# Altium footprint library WB_POWER.PcbLib: 8 footprints
Each footprint in its own frame and in the unit in brackets; x right, y up, seen from the top. Pads: shape width x height; smd on the part's side, far side on the other; paste and mask are expansions set on the pad; w line width, h text height; cw(c..) or ccw(c..) is an arc to the next point about the centre after c.
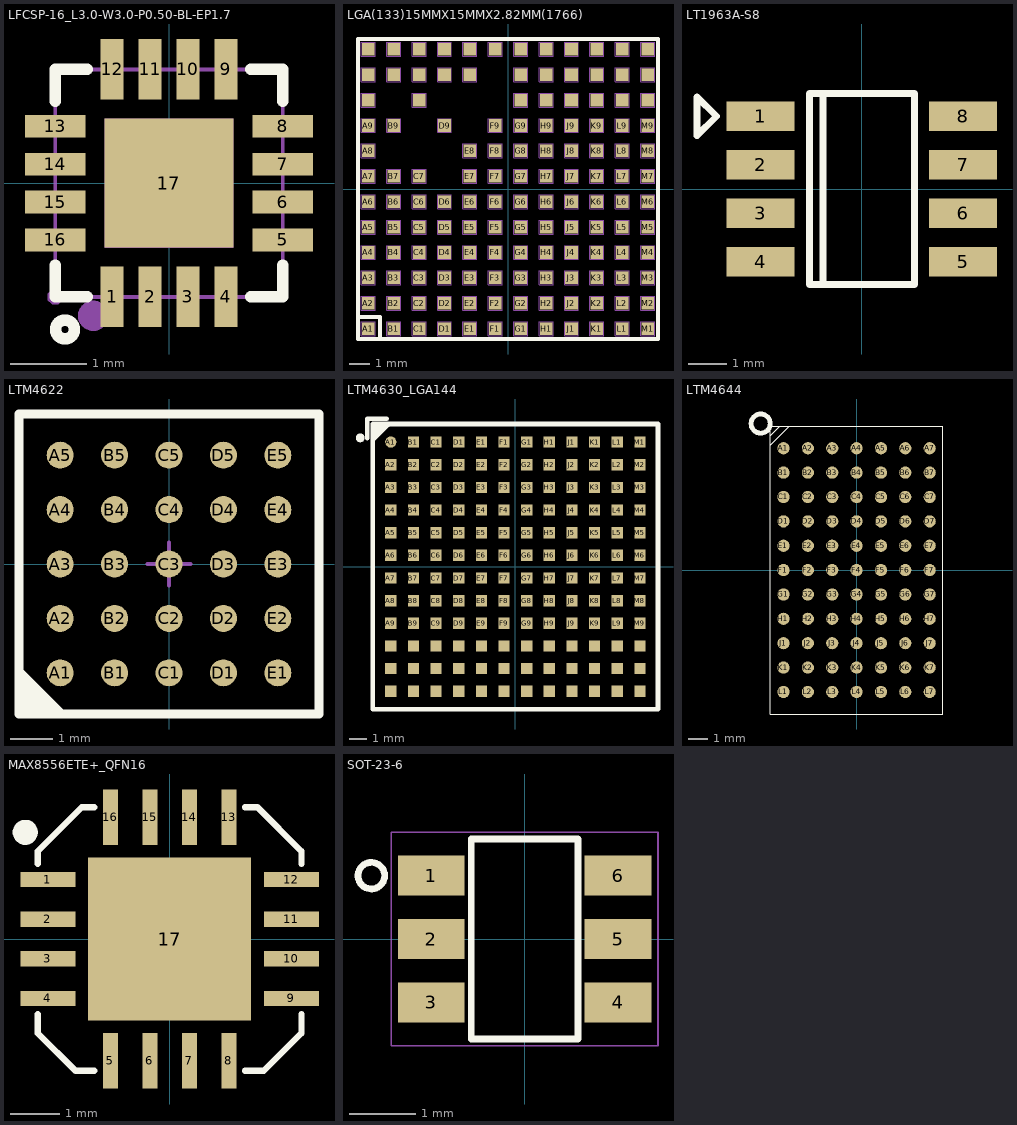
[diagram p0: the footprints below, top view; thin cyan lines are the x and y axes]

## LFCSP-16_L3.0-W3.0-P0.50-BL-EP1.7 [mm]
pads (17):
  rect 0.3x0.8 smd paste-100 mask+0.051: 1(-0.75,-1.5) 2(-0.25,-1.5) 3(0.25,-1.5) 4(0.75,-1.5) 9(0.75,1.5) 10(0.25,1.5) 11(-0.25,1.5) 12(-0.75,1.5)
  rect 0.8x0.3 smd paste-100 mask+0.051: 5(1.5,-0.75) 6(1.5,-0.25) 7(1.5,0.25) 8(1.498,0.751) 13(-1.5,0.75) 14(-1.5,0.25) 15(-1.5,-0.25) 16(-1.5,-0.75)
  rect 1.7x1.7 smd paste-100 mask+0.051: 17(0,0)
Top Overlay:
  lines w0.15: -1.5,-1.079 -1.5,-1.5 -1.079,-1.5 ; -1.5,1.079 -1.5,1.5 -1.079,1.5 ; -1.373,-1.805 ccw(c-1.372,-1.93) -1.372,-2.055 ccw(c-1.372,-1.93) -1.37,-1.805 ; 1.079,-1.5 1.5,-1.5 1.5,-1.079 ; 1.079,1.5 1.5,1.5 1.5,1.08
Top Paste:
  region: 0.6,1.1 0.9,1.1 0.9,1.9 0.6,1.9
  region: 0.1,1.1 0.4,1.1 0.4,1.9 0.1,1.9
  region: -0.4,1.1 -0.1,1.1 -0.1,1.9 -0.4,1.9
  region: -0.9,1.1 -0.6,1.1 -0.6,1.9 -0.9,1.9
  region: -0.9,-1.9 -0.6,-1.9 -0.6,-1.1 -0.9,-1.1
  region: -0.4,-1.9 -0.1,-1.9 -0.1,-1.1 -0.4,-1.1
  region: 0.1,-1.9 0.4,-1.9 0.4,-1.1 0.1,-1.1
  region: 0.6,-1.9 0.9,-1.9 0.9,-1.1 0.6,-1.1
  region: 1.1,-0.6 1.1,-0.9 1.9,-0.9 1.9,-0.6
  region: 1.1,-0.1 1.1,-0.4 1.9,-0.4 1.9,-0.1
  region: 1.1,0.4 1.1,0.1 1.9,0.1 1.9,0.4
  region: 1.098,0.901 1.098,0.6 1.898,0.6 1.898,0.901
  region: -1.9,-0.6 -1.9,-0.9 -1.1,-0.9 -1.1,-0.6
  region: -1.9,-0.1 -1.9,-0.4 -1.1,-0.4 -1.1,-0.1
  region: -1.9,0.4 -1.9,0.1 -1.1,0.1 -1.1,0.4
  region: -1.9,0.9 -1.9,0.6 -1.1,0.6 -1.1,0.9
  region: 0.68,-0.68 -0.68,-0.68 -0.68,0.68 0.68,0.68
Mechanical 6:
  circle w0.2: c-1,-1.75 r0.1
Mechanical 15:
  region: 0.85,-0.85 -0.85,-0.85 -0.85,0.85 0.85,0.85
  region: 0.874,1.2 0.624,1.2 0.624,1.5 0.874,1.5
  region: 0.373,1.2 0.123,1.2 0.123,1.5 0.373,1.5
  region: -0.626,1.2 -0.876,1.2 -0.876,1.5 -0.626,1.5
  region: -0.126,1.2 -0.375,1.2 -0.375,1.5 -0.126,1.5
  region: -1.2,0.875 -1.2,0.625 -1.5,0.625 -1.5,0.875
  region: -1.2,0.373 -1.2,0.123 -1.5,0.123 -1.5,0.373
  region: -1.2,-0.625 -1.2,-0.875 -1.5,-0.875 -1.5,-0.625
  region: -1.2,-0.125 -1.2,-0.375 -1.5,-0.375 -1.5,-0.125
  region: 1.198,-0.874 1.198,-0.624 1.498,-0.624 1.498,-0.874
  region: 1.198,-0.372 1.198,-0.122 1.498,-0.122 1.498,-0.372
  region: 1.198,0.626 1.198,0.876 1.498,0.876 1.498,0.626
  region: 1.198,0.126 1.198,0.376 1.498,0.376 1.498,0.126
  region: -0.875,-1.2 -0.625,-1.2 -0.625,-1.5 -0.875,-1.5
  region: -0.375,-1.2 -0.125,-1.2 -0.125,-1.5 -0.375,-1.5
  region: 0.625,-1.2 0.875,-1.2 0.875,-1.5 0.625,-1.5
  region: 0.125,-1.2 0.375,-1.2 0.375,-1.5 0.125,-1.5
  region: -1.4,-1.5 -1.4,-1.541 -1.459,-1.6 -1.541,-1.6 -1.6,-1.541 -1.6,-1.5 -1.6,-1.459 -1.541,-1.4 -1.459,-1.4 -1.4,-1.459 -1.4,-1.5
  lines w0.051: -1.5,-1.5 -1.5,1.5 1.5,1.5 1.5,-1.5 -1.5,-1.5

## LGA(133)15MMX15MMX2.82MM(1766) [mm] "LTM4613"
pads (133):
  rect 0.63x0.63 smd: A1(-6.985,-6.985) A2(-6.985,-5.715) A3(-6.985,-4.445) A4(-6.985,-3.175) A5(-6.985,-1.905) A6(-6.985,-0.635) A7(-6.985,0.635) A8(-6.985,1.905) A9(-6.985,3.175) A10(-6.985,4.445) A11(-6.985,5.715) A12(-6.985,6.985) B1(-5.715,-6.985) B2(-5.715,-5.715) B3(-5.715,-4.445) B4(-5.715,-3.175) B5(-5.715,-1.905) B6(-5.715,-0.635) B7(-5.715,0.635) B9(-5.715,3.175) B11(-5.715,5.715) B12(-5.715,6.985) C1(-4.445,-6.985) C2(-4.445,-5.715) C3(-4.445,-4.445) C4(-4.445,-3.175) C5(-4.445,-1.905) C6(-4.445,-0.635) C7(-4.445,0.635) C10(-4.445,4.445) C11(-4.445,5.715) C12(-4.445,6.985) D1(-3.175,-6.985) D2(-3.175,-5.715) D3(-3.175,-4.445) D4(-3.175,-3.175) D5(-3.175,-1.905) D6(-3.175,-0.635) D9(-3.175,3.175) D11(-3.175,5.715) D12(-3.175,6.985) E1(-1.905,-6.985) E2(-1.905,-5.715) E3(-1.905,-4.445) E4(-1.905,-3.175) E5(-1.905,-1.905) E6(-1.905,-0.635) E7(-1.905,0.635) E8(-1.905,1.905) E11(-1.905,5.715) E12(-1.905,6.985) F1(-0.635,-6.985) F2(-0.635,-5.715) F3(-0.635,-4.445) F4(-0.635,-3.175) F5(-0.635,-1.905) F6(-0.635,-0.635) F7(-0.635,0.635) F8(-0.635,1.905) F9(-0.635,3.175) F12(-0.635,6.985) G1(0.635,-6.985) G2(0.635,-5.715) G3(0.635,-4.445) G4(0.635,-3.175) G5(0.635,-1.905) G6(0.635,-0.635) G7(0.635,0.635) G8(0.635,1.905) G9(0.635,3.175) G10(0.635,4.445) G11(0.635,5.715) G12(0.635,6.985) H1(1.905,-6.985) H2(1.905,-5.715) H3(1.905,-4.445) H4(1.905,-3.175) H5(1.905,-1.905) H6(1.905,-0.635) H7(1.905,0.635) H8(1.905,1.905) H9(1.905,3.175) H10(1.905,4.445) H11(1.905,5.715) H12(1.905,6.985) J1(3.175,-6.985) J2(3.175,-5.715) J3(3.175,-4.445) J4(3.175,-3.175) J5(3.175,-1.905) J6(3.175,-0.635) J7(3.175,0.635) J8(3.175,1.905) J9(3.175,3.175) J10(3.175,4.445) J11(3.175,5.715) J12(3.175,6.985) K1(4.445,-6.985) K2(4.445,-5.715) K3(4.445,-4.445) K4(4.445,-3.175) K5(4.445,-1.905) K6(4.445,-0.635) K7(4.445,0.635) K8(4.445,1.905) K9(4.445,3.175) K10(4.445,4.445) K11(4.445,5.715) K12(4.445,6.985) L1(5.715,-6.985) L2(5.715,-5.715) L3(5.715,-4.445) L4(5.715,-3.175) L5(5.715,-1.905) L6(5.715,-0.635) L7(5.715,0.635) L8(5.715,1.905) L9(5.715,3.175) L10(5.715,4.445) L11(5.715,5.715) L12(5.715,6.985) M1(6.985,-6.985) M2(6.985,-5.715) M3(6.985,-4.445) M4(6.985,-3.175) M5(6.985,-1.905) M6(6.985,-0.635) M7(6.985,0.635) M8(6.985,1.905) M9(6.985,3.175) M10(6.985,4.445) M11(6.985,5.715) M12(6.985,6.985)
Top Overlay:
  lines w0.2: -7.5,-7.5 -6.4,-7.5 -6.4,-6.4 -7.5,-6.4 -7.5,-7.5 ; -7.5,-7.5 -7.5,7.5 7.5,7.5 7.5,-7.5 -7.5,-7.5
Mechanical 1:
  drawing of 532 lines, arcs and shapes, not listed
Mechanical 16:
  drawing of 532 lines, arcs and shapes, not listed

## LT1963A-S8 [mil]
pads (8):
  rect 70x30 smd: 1(-104.33,75) 2(-104.33,25) 3(-104.33,-25) 4(-104.33,-75) 5(104.33,-75) 6(104.33,-25) 7(104.33,25) 8(104.33,75)
Top Overlay:
  lines w7: -40,-98.43 -40,98.43 ; -170,55 -170,95 -150,75 -170,55 ; -54.02,-98.43 54.2,-98.43 54.2,98.43 -54.02,98.43 -54.02,-98.43

## LTM4622 [mm]
height 1.55
pads (25):
  round 0.63 smd: A1(-2.54,-2.54) A2(-2.54,-1.27) A3(-2.54,0) A4(-2.54,1.27) A5(-2.54,2.54) B1(-1.27,-2.54) B2(-1.27,-1.27) B3(-1.27,0) B4(-1.27,1.27) B5(-1.27,2.54) C1(0,-2.54) C2(0,-1.27) C3(0,0) C4(0,1.27) C5(0,2.54) D1(1.27,-2.54) D2(1.27,-1.27) D3(1.27,0) D4(1.27,1.27) D5(1.27,2.54) E1(2.54,-2.54) E2(2.54,-1.27) E3(2.54,0) E4(2.54,1.27) E5(2.54,2.54)
Top Overlay:
  region: -3.5,-2.5 -2.5,-3.5 -3.5,-3.5
  lines w0.2: -3.5,-2.5 -2.5,-3.5 ; -3.5,-3.5 3.5,-3.5 3.5,3.5 -3.5,3.5 -3.5,-3.5
Mechanical 13:
  lines w0.1: -3.5,-3.5 3.5,-3.5 3.5,3.5 -3.5,3.5 -3.5,-3.5
Mechanical 15:
  lines w0.1: -0.5,0 0.5,0 ; 0,-0.5 0,0.5
3D body: height 1.55, standoff 0, extent -3.5,-3.5 3.5,3.5

## LTM4630_LGA144 [mm] "LTM4630"
pads (144):
  round 0.63 smd: A1(-6.985,6.985)
  rect 0.63x0.63 smd: A2(-6.985,5.715) A3(-6.985,4.445) A4(-6.985,3.175) A5(-6.985,1.905) A6(-6.985,0.635) A7(-6.985,-0.635) A8(-6.985,-1.905) A9(-6.985,-3.175) A10(-6.985,-4.445) A11(-6.985,-5.715) A12(-6.985,-6.985) B1(-5.715,6.985) B2(-5.715,5.715) B3(-5.715,4.445) B4(-5.715,3.175) B5(-5.715,1.905) B6(-5.715,0.635) B7(-5.715,-0.635) B8(-5.715,-1.905) B9(-5.715,-3.175) B10(-5.715,-4.445) B11(-5.715,-5.715) B12(-5.715,-6.985) C1(-4.445,6.985) C2(-4.445,5.715) C3(-4.445,4.445) C4(-4.445,3.175) C5(-4.445,1.905) C6(-4.445,0.635) C7(-4.445,-0.635) C8(-4.445,-1.905) C9(-4.445,-3.175) C10(-4.445,-4.445) C11(-4.445,-5.715) C12(-4.445,-6.985) D1(-3.175,6.985) D2(-3.175,5.715) D3(-3.175,4.445) D4(-3.175,3.175) D5(-3.175,1.905) D6(-3.175,0.635) D7(-3.175,-0.635) D8(-3.175,-1.905) D9(-3.175,-3.175) D10(-3.175,-4.445) D11(-3.175,-5.715) D12(-3.175,-6.985) E1(-1.905,6.985) E2(-1.905,5.715) E3(-1.905,4.445) E4(-1.905,3.175) E5(-1.905,1.905) E6(-1.905,0.635) E7(-1.905,-0.635) E8(-1.905,-1.905) E9(-1.905,-3.175) E10(-1.905,-4.445) E11(-1.905,-5.715) E12(-1.905,-6.985) F1(-0.635,6.985) F2(-0.635,5.715) F3(-0.635,4.445) F4(-0.635,3.175) F5(-0.635,1.905) F6(-0.635,0.635) F7(-0.635,-0.635) F8(-0.635,-1.905) F9(-0.635,-3.175) F10(-0.635,-4.445) F11(-0.635,-5.715) F12(-0.635,-6.985) G1(0.635,6.985) G2(0.635,5.715) G3(0.635,4.445) G4(0.635,3.175) G5(0.635,1.905) G6(0.635,0.635) G7(0.635,-0.635) G8(0.635,-1.905) G9(0.635,-3.175) G10(0.635,-4.445) G11(0.635,-5.715) G12(0.635,-6.985) H1(1.905,6.985) H2(1.905,5.715) H3(1.905,4.445) H4(1.905,3.175) H5(1.905,1.905) H6(1.905,0.635) H7(1.905,-0.635) H8(1.905,-1.905) H9(1.905,-3.175) H10(1.905,-4.445) H11(1.905,-5.715) H12(1.905,-6.985) J1(3.175,6.985) J2(3.175,5.715) J3(3.175,4.445) J4(3.175,3.175) J5(3.175,1.905) J6(3.175,0.635) J7(3.175,-0.635) J8(3.175,-1.905) J9(3.175,-3.175) J10(3.175,-4.445) J11(3.175,-5.715) J12(3.175,-6.985) K1(4.445,6.985) K2(4.445,5.715) K3(4.445,4.445) K4(4.445,3.175) K5(4.445,1.905) K6(4.445,0.635) K7(4.445,-0.635) K8(4.445,-1.905) K9(4.445,-3.175) K10(4.445,-4.445) K11(4.445,-5.715) K12(4.445,-6.985) L1(5.715,6.985) L2(5.715,5.715) L3(5.715,4.445) L4(5.715,3.175) L5(5.715,1.905) L6(5.715,0.635) L7(5.715,-0.635) L8(5.715,-1.905) L9(5.715,-3.175) L10(5.715,-4.445) L11(5.715,-5.715) L12(5.715,-6.985) M1(6.985,6.985) M2(6.985,5.715) M3(6.985,4.445) M4(6.985,3.175) M5(6.985,1.905) M6(6.985,0.635) M7(6.985,-0.635) M8(6.985,-1.905) M9(6.985,-3.175) M10(6.985,-4.445) M11(6.985,-5.715) M12(6.985,-6.985)
Top Overlay:
  lines w0.249: -8.7,7.1 cw(c-8.699,7.225) -8.697,7.1
  lines w0.254: -8.3,7.2 -8.3,8.3 -7.2,8.3 ; -8,7.1 -7.165,7.935 -7.165,8 ; -8,7.401 -7.401,8 -7.33,8 ; -8,7.6 -7.699,7.901 -7.699,8 ; -8,-8 -8,8 8,8 8,-8 -8,-8

## LTM4644 [mil] "LTM4644"
pads (77):
  round 25 smd: A1(-150,250) A2(-100,250) A3(-50,250) A4(0,250) A5(50,250) A6(100,250) A7(150,250) B1(-150,200) B2(-100,200) B3(-50,200) B4(0,200) B5(50,200) B6(100,200) B7(150,200) C1(-150,150) C2(-100,150) C3(-50,150) C4(0,150) C5(50,150) C6(100,150) C7(150,150) D1(-150,100) D2(-100,100) D3(-50,100) D4(0,100) D5(50,100) D6(100,100) D7(150,100) E1(-150,50) E2(-100,50) E3(-50,50) E4(0,50) E5(50,50) E6(100,50) E7(150,50) F1(-150,0) F2(-100,0) F3(-50,0) F4(0,0) F5(50,0) F6(100,0) F7(150,0) G1(-150,-50) G2(-100,-50) G3(-50,-50) G4(0,-50) G5(50,-50) G6(100,-50) G7(150,-50) H1(-150,-100) H2(-100,-100) H3(-50,-100) H4(0,-100) H5(50,-100) H6(100,-100) H7(150,-100) J1(-150,-150) J2(-100,-150) J3(-50,-150) J4(0,-150) J5(50,-150) J6(100,-150) J7(150,-150) K1(-150,-200) K2(-100,-200) K3(-50,-200) K4(0,-200) K5(50,-200) K6(100,-200) K7(150,-200) L1(-150,-250) L2(-100,-250) L3(-50,-250) L4(0,-250) L5(50,-250) L6(100,-250) L7(150,-250)
Top Overlay:
  lines w1.97: -157.48,295.28 -177.17,275.59 -177.17,255.91 ; -177.17,255.91 -137.8,295.28 -177.17,255.91 ; -177.17,-295.28 177.17,-295.28 177.17,295.28 -177.17,295.28 -177.17,-295.28
  lines w9.84: -216.54,300.59 ccw(c-196.85,300.6) -196.85,280.91 ccw(c-196.85,300.59) -177.17,300.59 ccw(c-196.85,300.6) -196.85,320.28 ccw(c-196.85,300.59) -216.54,300.59
Mechanical 17:
  text "LTM4644IY" at 300,190 h25

## MAX8556ETE+_QFN16 [mil] "MAX8556ETE+"
pads (17):
  rect 44x12 smd: 1(-97,47.24) 2(-97,15.75) 3(-97,-15.75) 4(-97,-47.24) 9(97,-47.24) 10(97,-15.75) 11(97,15.75) 12(97,47.24)
  rect 12x44 smd: 5(-47.24,-97) 6(-15.75,-97) 7(15.75,-97) 8(47.24,-97) 13(47.24,97) 14(15.75,97) 15(-15.75,97) 16(-47.24,97)
  rect 130x130 smd: 17(0,0)
Top Overlay:
  circle w10: c-115,85 r5
  lines w5: -105,-60 -105,-75 -75,-105 -60,-105 ; -105,60 -105,70 -70,105 -60,105 ; 60,-105 75,-105 105,-75 105,-60 ; 60,105 70,105 105,70 105,60
Mechanical 17:
  text ".Designator" at 6,-1.67 h5

## SOT-23-6 [mm] "SOT-23-6"
pads (6):
  rect 1x0.6 smd: 1(-1.4,0.95) 2(-1.4,0) 3(-1.4,-0.95) 4(1.4,-0.95) 5(1.4,0) 6(1.4,0.95)
Top Overlay:
  circle w0.1: c-2.3,0.95 r0.2
  lines w0.1: -0.8,-1.5 0.8,-1.5 0.8,1.5 -0.8,1.5 -0.8,-1.5
Mechanical 7:
  text "6" at 1.146,0.633 h0.64
  text "2" at -1.654,-0.318 h0.64
  text "4" at 1.146,-1.267 h0.64
  text "3" at -1.654,-1.267 h0.64
  text "1" at -1.654,0.633 h0.64
  text "5" at 1.146,-0.318 h0.64
Mechanical 8:
  lines w0.025: -0.8,-1.5 0.8,-1.5 0.8,1.5 -0.8,1.5 -0.8,-1.5
  text "TPS563201_SOT-23-6_TPS563201" at -1.448,1.753 h0.64
Mechanical 9:
  lines w0.025: -2,-1.6 2,-1.6 2,1.6 -2,1.6 -2,-1.6